# Altium footprint library ATMega328P.PcbLib: 1 footprints
Each footprint in its own frame and in the unit in brackets; x right, y up, seen from the top. Pads: shape width x height; smd on the part's side, far side on the other; paste and mask are expansions set on the pad; w line width, h text height; cw(c..) or ccw(c..) is an arc to the next point about the centre after c.
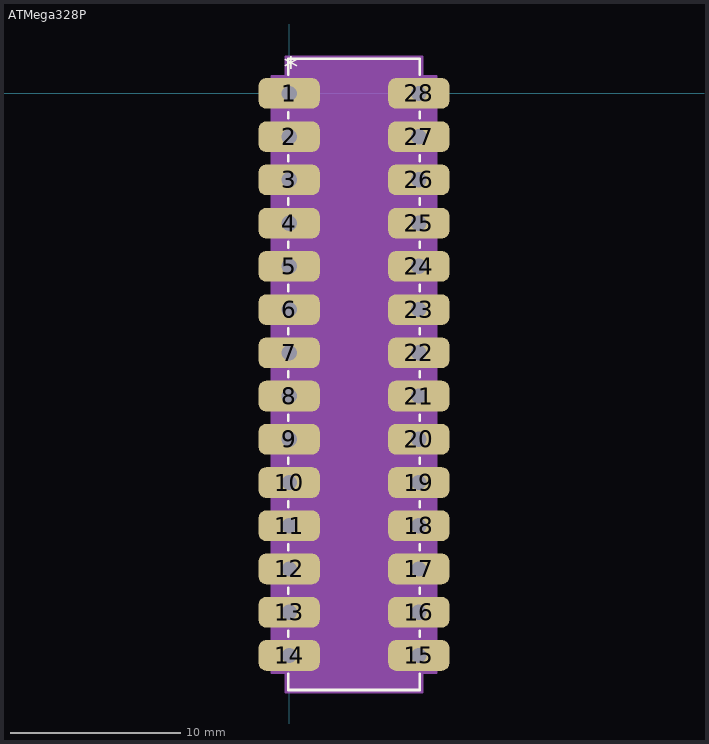
[diagram p0: the footprint, top view; thin cyan lines are the x and y axes]

## ATMega328P [mm]
pads (28):
  rrect50% 3.6x1.8 hole 0.9 paste-0.762 mask+0: 1(0,0) 2(0,-2.54) 3(0,-5.08) 4(0,-7.62) 5(0,-10.16) 6(0,-12.7) 7(0,-15.24) 8(0,-17.78) 9(0,-20.32) 10(0,-22.86) 11(0,-25.4) 12(0,-27.94) 13(0,-30.48) 14(0,-33.02) 15(7.62,-33.02) 16(7.62,-30.48) 17(7.62,-27.94) 18(7.62,-25.4) 19(7.62,-22.86) 20(7.62,-20.32) 21(7.62,-17.78) 22(7.62,-15.24) 23(7.62,-12.7) 24(7.62,-10.16) 25(7.62,-7.62) 26(7.62,-5.08) 27(7.62,-2.54) 28(7.62,0)
Top Overlay:
  lines w0.152: -0.064,-34.113 -0.064,-35.052 7.683,-35.052 7.683,-34.113 ; -0.064,-31.927 -0.064,-31.573 ; -0.064,-29.387 -0.064,-29.033 ; -0.064,-26.847 -0.064,-26.493 ; -0.064,-24.307 -0.064,-23.953 ; -0.064,-21.767 -0.064,-21.413 ; -0.064,-19.227 -0.064,-18.873 ; -0.064,-16.687 -0.064,-16.333 ; -0.064,-14.147 -0.064,-13.793 ; -0.064,-11.607 -0.064,-11.253 ; -0.064,-9.067 -0.064,-8.713 ; -0.064,-6.527 -0.064,-6.173 ; -0.064,-3.987 -0.064,-3.633 ; -0.064,-1.447 -0.064,-1.095 ; -0.064,1.095 -0.064,2.032 7.683,2.032 7.683,1.093 ; 7.683,-31.927 7.683,-31.573 ; 7.683,-29.387 7.683,-29.033 ; 7.683,-26.847 7.683,-26.493 ; 7.683,-24.307 7.683,-23.953 ; 7.683,-21.767 7.683,-21.413 ; 7.683,-19.227 7.683,-18.873 ; 7.683,-16.687 7.683,-16.333 ; 7.683,-14.147 7.683,-13.793 ; 7.683,-11.607 7.683,-11.253 ; 7.683,-9.067 7.683,-8.713 ; 7.683,-6.527 7.683,-6.173 ; 7.683,-3.987 7.683,-3.633 ; 7.683,-1.447 7.683,-1.093
  text "*" at -0.318,0.889 h1.27
Mechanical 13:
  lines w0: 3.505,1.905 ccw(c3.81,1.905) 4.115,1.905
  lines w0.025: -0.406,-33.426 -0.406,-32.614 0.064,-32.614 0.064,-33.426 -0.406,-33.426 ; -0.406,-30.886 -0.406,-30.074 0.064,-30.074 0.064,-30.886 -0.406,-30.886 ; -0.406,-28.346 -0.406,-27.534 0.064,-27.534 0.064,-28.346 -0.406,-28.346 ; -0.406,-25.806 -0.406,-24.994 0.064,-24.994 0.064,-25.806 -0.406,-25.806 ; -0.406,-23.266 -0.406,-22.454 0.064,-22.454 0.064,-23.266 -0.406,-23.266 ; -0.406,-20.726 -0.406,-19.914 0.064,-19.914 0.064,-20.726 -0.406,-20.726 ; -0.406,-18.186 -0.406,-17.374 0.064,-17.374 0.064,-18.186 -0.406,-18.186 ; -0.406,-15.646 -0.406,-14.834 0.064,-14.834 0.064,-15.646 -0.406,-15.646 ; -0.406,-13.106 -0.406,-12.294 0.064,-12.294 0.064,-13.106 -0.406,-13.106 ; -0.406,-10.566 -0.406,-9.754 0.064,-9.754 0.064,-10.566 -0.406,-10.566 ; -0.406,-8.026 -0.406,-7.214 0.064,-7.214 0.064,-8.026 -0.406,-8.026 ; -0.406,-5.486 -0.406,-4.674 0.064,-4.674 0.064,-5.486 -0.406,-5.486 ; -0.406,-2.946 -0.406,-2.134 0.064,-2.134 0.064,-2.946 -0.406,-2.946 ; -0.406,-0.406 -0.406,0.406 0.064,0.406 0.064,-0.406 -0.406,-0.406 ; 0.064,-34.925 7.556,-34.925 7.556,1.905 0.064,1.905 0.064,-34.925 ; 7.556,-33.426 7.556,-32.614 8.026,-32.614 8.026,-33.426 7.556,-33.426 ; 7.556,-30.886 7.556,-30.074 8.026,-30.074 8.026,-30.886 7.556,-30.886 ; 7.556,-28.346 7.556,-27.534 8.026,-27.534 8.026,-28.346 7.556,-28.346 ; 7.556,-25.806 7.556,-24.994 8.026,-24.994 8.026,-25.806 7.556,-25.806 ; 7.556,-23.266 7.556,-22.454 8.026,-22.454 8.026,-23.266 7.556,-23.266 ; 7.556,-20.726 7.556,-19.914 8.026,-19.914 8.026,-20.726 7.556,-20.726 ; 7.556,-18.186 7.556,-17.374 8.026,-17.374 8.026,-18.186 7.556,-18.186 ; 7.556,-15.646 7.556,-14.834 8.026,-14.834 8.026,-15.646 7.556,-15.646 ; 7.556,-13.106 7.556,-12.294 8.026,-12.294 8.026,-13.106 7.556,-13.106 ; 7.556,-10.566 7.556,-9.754 8.026,-9.754 8.026,-10.566 7.556,-10.566 ; 7.556,-8.026 7.556,-7.214 8.026,-7.214 8.026,-8.026 7.556,-8.026 ; 7.556,-5.486 7.556,-4.674 8.026,-4.674 8.026,-5.486 7.556,-5.486 ; 7.556,-2.946 7.556,-2.134 8.026,-2.134 8.026,-2.946 7.556,-2.946 ; 7.556,-0.406 7.556,0.406 8.026,0.406 8.026,-0.406 7.556,-0.406
  text "*" at 0,-0.635 h1.27
Mechanical 15:
  region: 7.81,-34.036 8.636,-34.036 8.636,1.016 7.81,1.016 7.81,2.159 -0.191,2.159 -0.191,1.016 -1.016,1.016 -1.016,-34.036 -0.191,-34.036 -0.191,-35.179 7.81,-35.179
  lines w0.152: -1.016,-34.036 -1.016,1.016 -0.191,1.016 -0.191,2.159 7.81,2.159 7.81,1.016 8.636,1.016 8.636,-34.036 7.81,-34.036 7.81,-35.179 -0.191,-35.179 -0.191,-34.036 -1.016,-34.036
3D body "28P3_ATM.step": height 5.21, standoff -2.54, extent -0.127,-34.925 7.988,1.905